# Altium schematic symbol library RC0805FR-134K75L.SchLib: 1 symbol
Pins are listed as number, name and electrical type; pins without a type are passive.

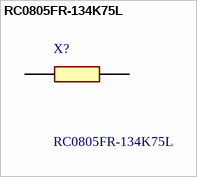
[diagram p0: symbol RC0805FR-134K75L]

## RC0805FR-134K75L
designator X?
Thick Film Resistors - SMD 4.75kOhms 1/8W 0805 1%; Manufacturer_Name: YAGEO; Geometry.Height: 0.6mm; Manufacturer_Part_Number: RC0805FR-134K75L; Mouser Part Number: 603-RC0805FR-134K75L; Mouser Price/Stock: https://www.mouser.co.uk/ProductDetail/YAGEO/RC0805FR-134K75L?qs=m6lXFsvg5e267D1E2DRXpg%3D%3D; Arrow Part Number: *; Arrow Price/Stock: *; Datasheet Link: https://www.mouser.com/datasheet/2/447/PYu_RC_Group_51_RoHS_L_11-1984063.pdf
footprint RESC2012X60N
pins: 1, 2